# EAGLE library part ZIF-XF2U-4 (library zif-xf2u)
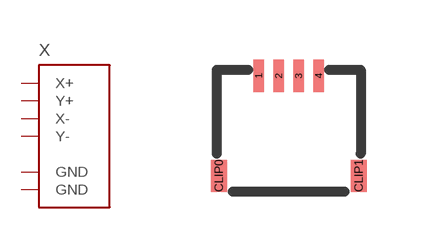
[diagram p0: symbol with the pads of SMD-4; footprint SMD-4]

Designator prefix X

## ZIF-XF2U-4SMD  [SMD-4]
1  Y+
2  X+
3  Y-
4  X-
CLIP0  GND
CLIP1  GND

## Footprint SMD-4 (pad centres in mm)
smd 0.255 x 0.8: 1 -0.75,0.4; 2 -0.25,0.4; 3 0.25,0.4; 4 0.75,0.4
smd 0.4 x 0.8: CLIP0 -1.75,-2.1; CLIP1 1.75,-2.1